# EAGLE library part ARDUINO-CONN-8 (library MIDI router parts)
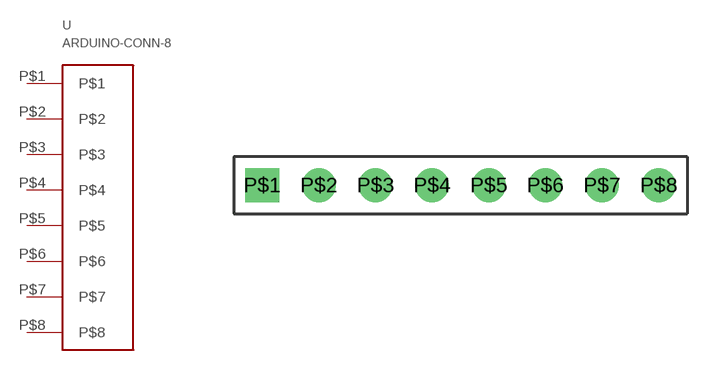
[diagram p8: symbol with the pads of ARDUINO-CONN-8; footprint ARDUINO-CONN-8]

Designator prefix -

## ARDUINO-CONN-8  [ARDUINO-CONN-8]
P$1  P$1
P$2  P$2
P$3  P$3
P$4  P$4
P$5  P$5
P$6  P$6
P$7  P$7
P$8  P$8

## Footprint ARDUINO-CONN-8 (pad centres in mm)
drill 1 square: P$1 0,0
drill 1: P$2 2.54,0; P$3 5.08,0; P$4 7.62,0; P$5 10.16,0; P$6 12.7,0; P$7 15.24,0; P$8 17.78,0